# EAGLE library part BLUETOOTH-FRAME (library Module)
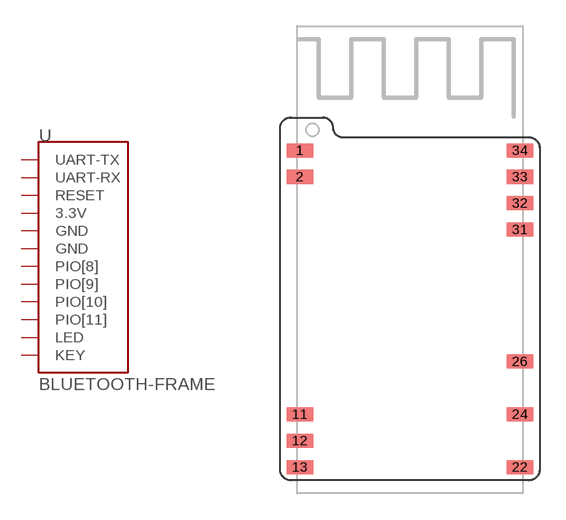
[diagram p6: symbol with the pads of 8P-1.524-27X15-W/-ANT-FRAME; footprint 8P-1.524-27X15-W/-ANT-FRAME]

Designator prefix U

## BLUETOOTH-FRAME  [8P-1.524-27X15-W/-ANT-FRAME]
1  UART-TX
2  UART-RX
11  RESET
12  3.3V
13  GND  sup
22  GND  sup
24  LED
26  KEY
31  PIO[8]
32  PIO[9]
33  PIO[10]
34  PIO[11]

## Footprint 8P-1.524-27X15-W/-ANT-FRAME (pad centres in mm)
smd 1.524 x 0.813: 1 -6.35,19.05; 2 -6.35,17.526; 11 -6.35,3.81; 12 -6.35,2.286; 13 -6.35,0.762; 22 6.35,0.762; 24 6.35,3.81; 26 6.35,6.858; 31 6.35,14.478; 32 6.35,16.002; 33 6.35,17.526; 34 6.35,19.05